# Altium footprint library ald_mosfets.PcbLib: 2 footprints
Each footprint in its own frame and in the unit in brackets; x right, y up, seen from the top. Pads: shape width x height; smd on the part's side, far side on the other; paste and mask are expansions set on the pad; w line width, h text height; cw(c..) or ccw(c..) is an arc to the next point about the centre after c.
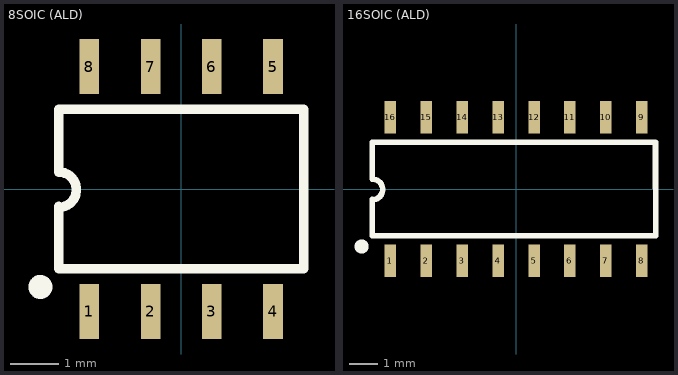
[diagram p0: the footprints below, top view; thin cyan lines are the x and y axes]

## 8SOIC (ALD) [mil] "SOIC footprint for ALD MOSFETS"
height 69
pads (8):
  rect 16x45 smd: 1(-75,-100) 2(-25,-100) 3(25,-100) 4(75,-100) 5(75,100) 6(25,100) 7(-25,100) 8(-75,100)
Top Overlay:
  circle w9.84: c-115,-80 r4.92
  lines w7.87: -100,-15 ccw(c-100,-0.56) -100,13.87 ; -100,-14.19 -100,-65 100,-65 100,65 -100,65 -100,15

## 16SOIC (ALD) [mil] "SOIC footprint for ALD MOSFETS"
height 69
pads (16):
  rect 16x45 smd: 1(-175,-100) 2(-125,-100) 3(-75,-100) 4(-25,-100) 5(25,-100) 6(75,-100) 7(125,-100) 8(175,-100) 9(175,100) 10(125,100) 11(75,100) 12(25,100) 13(-25,100) 14(-75,100) 15(-125,100) 16(-175,100)
Top Overlay:
  circle w9.84: c-215,-80 r4.92
  lines w7.87: -200,-15 ccw(c-200,-0.56) -200,13.87 ; -200,-14.19 -200,-65 194.14,-65 193.98,65 -200,65 -200,15